# EAGLE library part 4050434 (library ampex)
Record Card
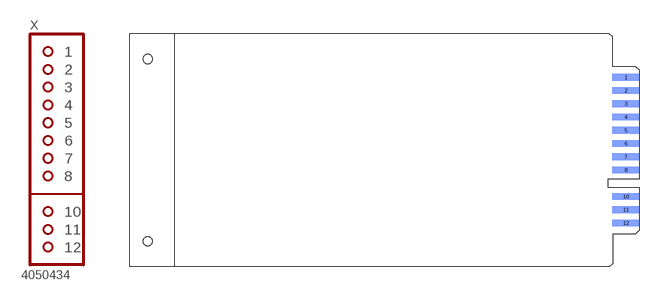
[diagram p7: symbol with the pads of 4050434; footprint 4050434]

Designator prefix X

## 4050434  [4050434]
1  1  pas
2  2  pas
3  3  pas
4  4  pas
5  5  pas
6  6  pas
7  7  pas
8  8  pas
10  10  pas
11  11  pas
12  12  pas

## Footprint 4050434 (pad centres in mm)
RECORD CARD
smd 8.128 x 2.032 bottom: 1 75.286,21.793; 2 75.286,17.831; 3 75.286,13.868; 4 75.286,9.906; 5 75.286,5.944; 6 75.286,1.981; 7 75.286,-1.981; 8 75.286,-5.944; 10 75.286,-13.868; 11 75.286,-17.831; 12 75.286,-21.793
hole 2.794 at -67.856,27.241
hole 2.794 at -67.856,-27.242